# EAGLE library part MK22FX512AVLQ12 (library MK22FX512AVLQ12)
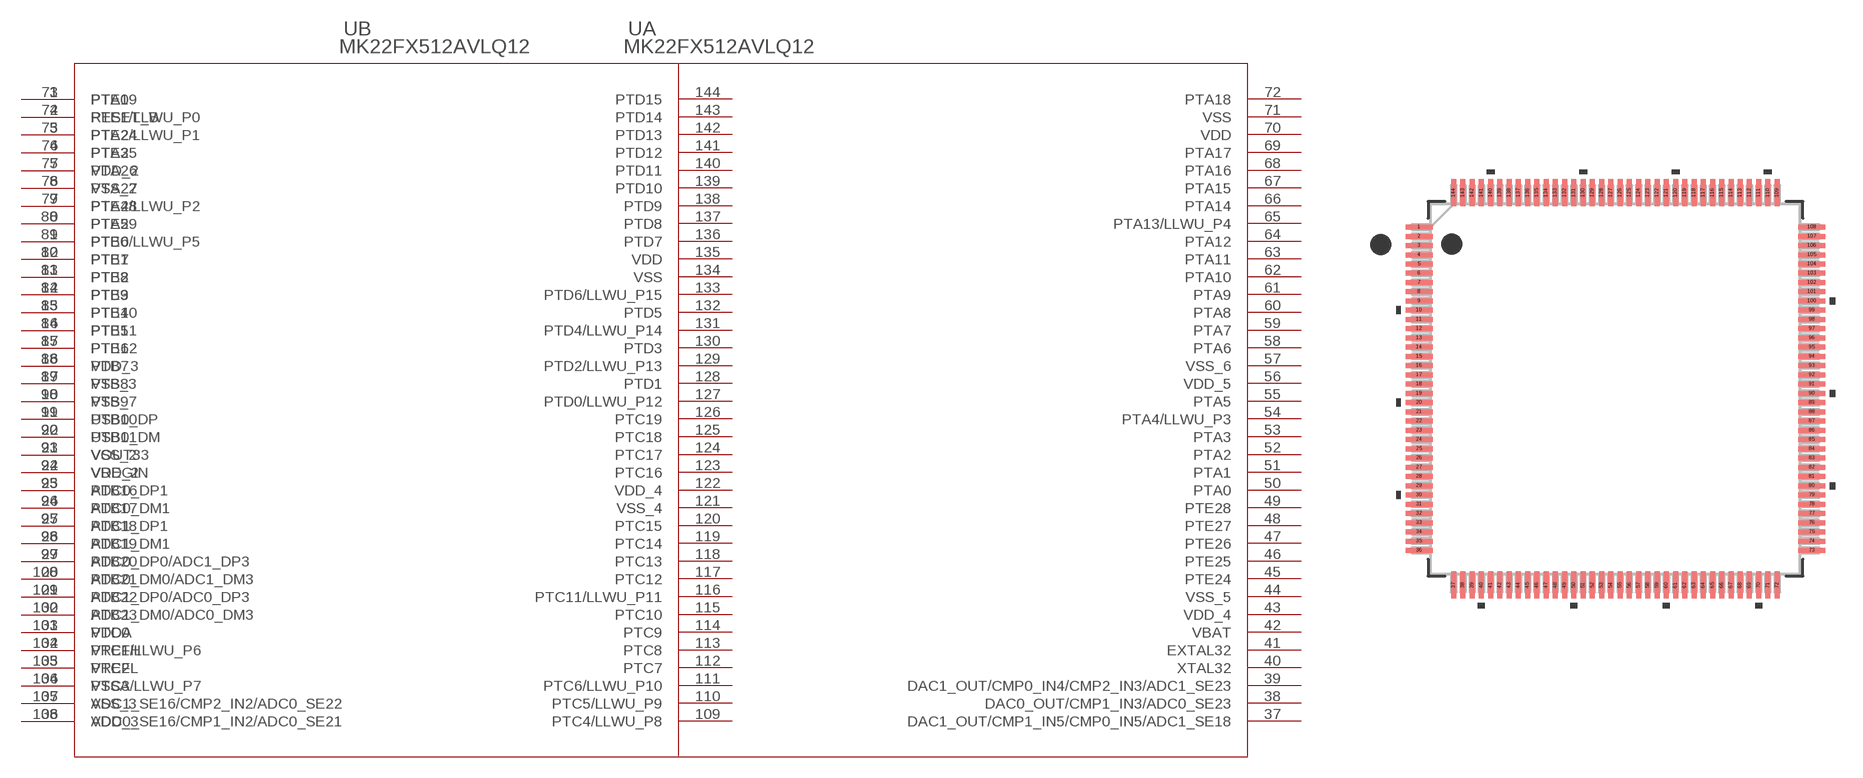
[diagram p0: symbol with the pads of LQFP-144_20X20X1.6; footprint LQFP-144_20X20X1.6]

Designator prefix U; gates A=MK20DN512VLQ10_A B=MK20DN512VLQ10_B

## MK22FX512AVLQ12 (CPU: ARM Cortex-M4; FLASHKB: 512; MANUFACTURER_PART_NUMBER: MK22FX512AVLQ12; MAXFREQUENCY: 120; PINCOUNT: 144; SRAMKB: 128; VENDOR: NXP)  [LQFP-144_20X20X1.6]
1  A:PTE0
2  A:PTE1/LLWU_P0
3  A:PTE2/LLWU_P1
4  A:PTE3
5  A:VDD_2  pwr
6  A:VSS_2  pwr
7  A:PTE4/LLWU_P2
8  A:PTE5
9  A:PTE6
10  A:PTE7
11  A:PTE8
12  A:PTE9
13  A:PTE10
14  A:PTE11
15  A:PTE12
16  A:VDD_3  pwr
17  A:VSS_3  pwr
18  A:VSS_7  pwr
19  A:USB0_DP
20  A:USB0_DM
21  A:VOUT33  pwr
22  A:VREGIN  pwr
23  A:ADC0_DP1
24  A:ADC0_DM1
25  A:ADC1_DP1
26  A:ADC1_DM1
27  A:ADC0_DP0/ADC1_DP3
28  A:ADC0_DM0/ADC1_DM3
29  A:ADC1_DP0/ADC0_DP3
30  A:ADC1_DM0/ADC0_DM3
31  A:VDDA  pwr
32  A:VREFH  pwr
33  A:VREFL  pwr
34  A:VSSA  pwr
35  A:ADC1_SE16/CMP2_IN2/ADC0_SE22
36  A:ADC0_SE16/CMP1_IN2/ADC0_SE21
37  A:DAC1_OUT/CMP1_IN5/CMP0_IN5/ADC1_SE18
38  A:DAC0_OUT/CMP1_IN3/ADC0_SE23
39  A:DAC1_OUT/CMP0_IN4/CMP2_IN3/ADC1_SE23
40  A:XTAL32  pas
41  A:EXTAL32  pas
42  A:VBAT  pwr
43  A:VDD_4  pwr
44  A:VSS_5  pwr
45  A:PTE24
46  A:PTE25
47  A:PTE26
48  A:PTE27
49  A:PTE28
50  A:PTA0
51  A:PTA1
52  A:PTA2
53  A:PTA3
54  A:PTA4/LLWU_P3
55  A:PTA5
56  A:VDD_5  pwr
57  A:VSS_6  pwr
58  A:PTA6
59  A:PTA7
60  A:PTA8
61  A:PTA9
62  A:PTA10
63  A:PTA11
64  A:PTA12
65  A:PTA13/LLWU_P4
66  A:PTA14
67  A:PTA15
68  A:PTA16
69  A:PTA17
70  A:VDD  pwr
71  A:VSS  pwr
72  A:PTA18
73  B:PTA19
74  B:RESET_B  pas
75  B:PTA24
76  B:PTA25
77  B:PTA26
78  B:PTA27
79  B:PTA28
80  B:PTA29
81  B:PTB0/LLWU_P5
82  B:PTB1
83  B:PTB2
84  B:PTB3
85  B:PTB4
86  B:PTB5
87  B:PTB6
88  B:PTB7
89  B:PTB8
90  B:PTB9
91  B:PTB10
92  B:PTB11
93  B:VSS_2  pwr
94  B:VDD_2  pwr
95  B:PTB16
96  B:PTB17
97  B:PTB18
98  B:PTB19
99  B:PTB20
100  B:PTB21
101  B:PTB22
102  B:PTB23
103  B:PTC0
104  B:PTC1/LLWU_P6
105  B:PTC2
106  B:PTC3/LLWU_P7
107  B:VSS_3  pwr
108  B:VDD_3  pwr
109  B:PTC4/LLWU_P8
110  B:PTC5/LLWU_P9
111  B:PTC6/LLWU_P10
112  B:PTC7
113  B:PTC8
114  B:PTC9
115  B:PTC10
116  B:PTC11/LLWU_P11
117  B:PTC12
118  B:PTC13
119  B:PTC14
120  B:PTC15
121  B:VSS_4  pwr
122  B:VDD_4  pwr
123  B:PTC16
124  B:PTC17
125  B:PTC18
126  B:PTC19
127  B:PTD0/LLWU_P12
128  B:PTD1
129  B:PTD2/LLWU_P13
130  B:PTD3
131  B:PTD4/LLWU_P14
132  B:PTD5
133  B:PTD6/LLWU_P15
134  B:VSS  pwr
135  B:VDD  pwr
136  B:PTD7
137  B:PTD8
138  B:PTD9
139  B:PTD10
140  B:PTD11
141  B:PTD12
142  B:PTD13
143  B:PTD14
144  B:PTD15

## Footprint LQFP-144_20X20X1.6 (pad centres in mm)
smd 1.461 x 0.27: 1 -10.498,8.75; 2 -10.498,8.25; 3 -10.498,7.75; 4 -10.498,7.25; 5 -10.498,6.75; 6 -10.498,6.25; 7 -10.498,5.75; 8 -10.498,5.25; 9 -10.498,4.75; 10 -10.498,4.25; 11 -10.498,3.75; 12 -10.498,3.25; 13 -10.498,2.75; 14 -10.498,2.25; 15 -10.498,1.75; 16 -10.498,1.25; 17 -10.498,0.75; 18 -10.498,0.25; 19 -10.498,-0.25; 20 -10.498,-0.75; 21 -10.498,-1.25; 22 -10.498,-1.75; 23 -10.498,-2.25; 24 -10.498,-2.75; 25 -10.498,-3.25; 26 -10.498,-3.75; 27 -10.498,-4.25; 28 -10.498,-4.75; 29 -10.498,-5.25; 30 -10.498,-5.75; 31 -10.498,-6.25; 32 -10.498,-6.75; 33 -10.498,-7.25; 34 -10.498,-7.75; 35 -10.498,-8.25; 36 -10.498,-8.75; 73 10.752,-8.75; 74 10.752,-8.25; 75 10.752,-7.75; 76 10.752,-7.25; 77 10.752,-6.75; 78 10.752,-6.25; 79 10.752,-5.75; 80 10.752,-5.25; 81 10.752,-4.75; 82 10.752,-4.25; 83 10.752,-3.75; 84 10.752,-3.25; 85 10.752,-2.75; 86 10.752,-2.25; 87 10.752,-1.75; 88 10.752,-1.25; 89 10.752,-0.75; 90 10.752,-0.25; 91 10.752,0.25; 92 10.752,0.75; 93 10.752,1.25; 94 10.752,1.75; 95 10.752,2.25; 96 10.752,2.75; 97 10.752,3.25; 98 10.752,3.75; 99 10.752,4.25; 100 10.752,4.75; 101 10.752,5.25; 102 10.752,5.75; 103 10.752,6.25; 104 10.752,6.75; 105 10.752,7.25; 106 10.752,7.75; 107 10.752,8.25; 108 10.752,8.75
smd 0.27 x 1.461: 37 -8.623,-10.625; 38 -8.123,-10.625; 39 -7.623,-10.625; 40 -7.123,-10.625; 41 -6.623,-10.625; 42 -6.123,-10.625; 43 -5.623,-10.625; 44 -5.123,-10.625; 45 -4.623,-10.625; 46 -4.123,-10.625; 47 -3.623,-10.625; 48 -3.123,-10.625; 49 -2.623,-10.625; 50 -2.123,-10.625; 51 -1.623,-10.625; 52 -1.123,-10.625; 53 -0.623,-10.625; 54 -0.123,-10.625; 55 0.377,-10.625; 56 0.877,-10.625; 57 1.377,-10.625; 58 1.877,-10.625; 59 2.377,-10.625; 60 2.877,-10.625; 61 3.377,-10.625; 62 3.877,-10.625; 63 4.377,-10.625; 64 4.877,-10.625; 65 5.377,-10.625; 66 5.877,-10.625; 67 6.377,-10.625; 68 6.877,-10.625; 69 7.377,-10.625; 70 7.877,-10.625; 71 8.377,-10.625; 72 8.877,-10.625; 109 8.877,10.625; 110 8.377,10.625; 111 7.877,10.625; 112 7.377,10.625; 113 6.877,10.625; 114 6.377,10.625; 115 5.877,10.625; 116 5.377,10.625; 117 4.877,10.625; 118 4.377,10.625; 119 3.877,10.625; 120 3.377,10.625; 121 2.877,10.625; 122 2.377,10.625; 123 1.877,10.625; 124 1.377,10.625; 125 0.877,10.625; 126 0.377,10.625; 127 -0.123,10.625; 128 -0.623,10.625; 129 -1.123,10.625; 130 -1.623,10.625; 131 -2.123,10.625; 132 -2.623,10.625; 133 -3.123,10.625; 134 -3.623,10.625; 135 -4.123,10.625; 136 -4.623,10.625; 137 -5.123,10.625; 138 -5.623,10.625; 139 -6.123,10.625; 140 -6.623,10.625; 141 -7.123,10.625; 142 -7.623,10.625; 143 -8.123,10.625; 144 -8.623,10.625